# Altium footprint library TPD6E001.PcbLib: 1 footprints
Each footprint in its own frame and in the unit in brackets; x right, y up, seen from the top. Pads: shape width x height; smd on the part's side, far side on the other; paste and mask are expansions set on the pad; w line width, h text height; cw(c..) or ccw(c..) is an arc to the next point about the centre after c.
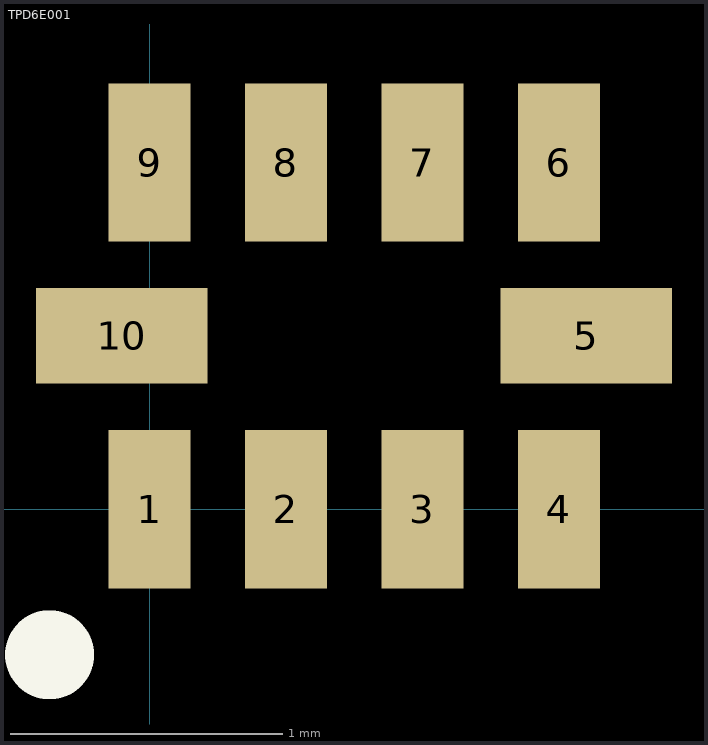
[diagram p0: the footprint, top view; thin cyan lines are the x and y axes]

## TPD6E001 [mm]
pads (10):
  rect 0.3x0.58 smd mask+0.05: 1(0,0) 2(0.5,0) 3(1,0) 4(1.5,0) 6(1.5,1.27) 7(1,1.27) 8(0.5,1.27) 9(0,1.27)
  rect 0.63x0.35 smd mask+0.05: 5(1.6,0.635) 10(-0.102,0.635)
Top Overlay:
  circle w0.254: c-0.366,-0.533 r0.036